# Altium schematic symbol library Photodiodes.SchLib: 6 symbols
Pins are listed as number, name and electrical type; pins without a type are passive.

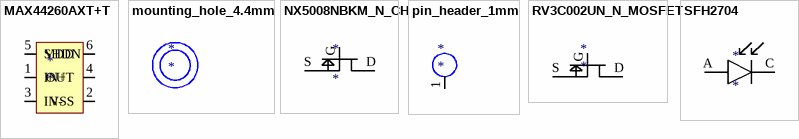
[diagram p0: symbols MAX44260AXT+T to SFH2704]

## MAX44260AXT+T
designator *
SC70-6 Package
footprint MAX44260ATX+T (SC70-6)
pins: 1 IN+, 2 VSS, 3 IN-, 4 OUT, 5 SHDN, 6 VDD

## mounting_hole_4.4mm
designator *
footprint mouting_hole_4_4mm

## NX5008NBKM_N_CH
designator *
50 V, N-channel Trench MOSFET, SOT883, DFN1060 Package
footprint NX5008NBKM_N_CH (50 V, N-channel Trench MOSFET, SOT883, DFN1060 Package)
pins: D, G, S

## pin_header_1mm
designator *
footprint pin_header_pad_1mm
pins: 1

## RV3C002UN_N_MOSFET
designator *
footprint RV3C002UN_N_MOSFET (Nch 20V 150mA Small Signal MOSFET)
pins: D, G, S

## SFH2704
designator *
footprint SFH2704
pins: A (power), C (power)